# Altium schematic symbol library AltiumDesigner.SchLib: 2 symbols
Pins are listed as number, name and electrical type; pins without a type are passive.

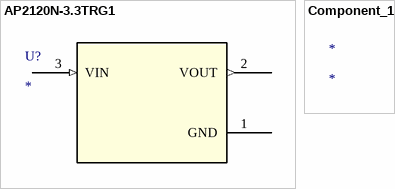
[diagram p0: symbols AP2120N-3.3TRG1 to Component_1]

## AP2120N-3.3TRG1
designator U?
Imported; Manufacturer_Part_Number: AP2120N-3.3TRG1; Vendor: Diodes Inc; Built_By: EMA_UL_Team; RefDes: RefDes; Type: DEV; Value: Value
footprint SOT-23
pins: 1 GND (power), 2 VOUT (out), 3 VIN (in)

## Component_1
designator *